# Altium footprint library PcbLib_H2.PcbLib: 33 footprints (part 1 of 3)
Each footprint in its own frame and in the unit in brackets; x right, y up, seen from the top. Pads: shape width x height; smd on the part's side, far side on the other; paste and mask are expansions set on the pad; w line width, h text height; cw(c..) or ccw(c..) is an arc to the next point about the centre after c.
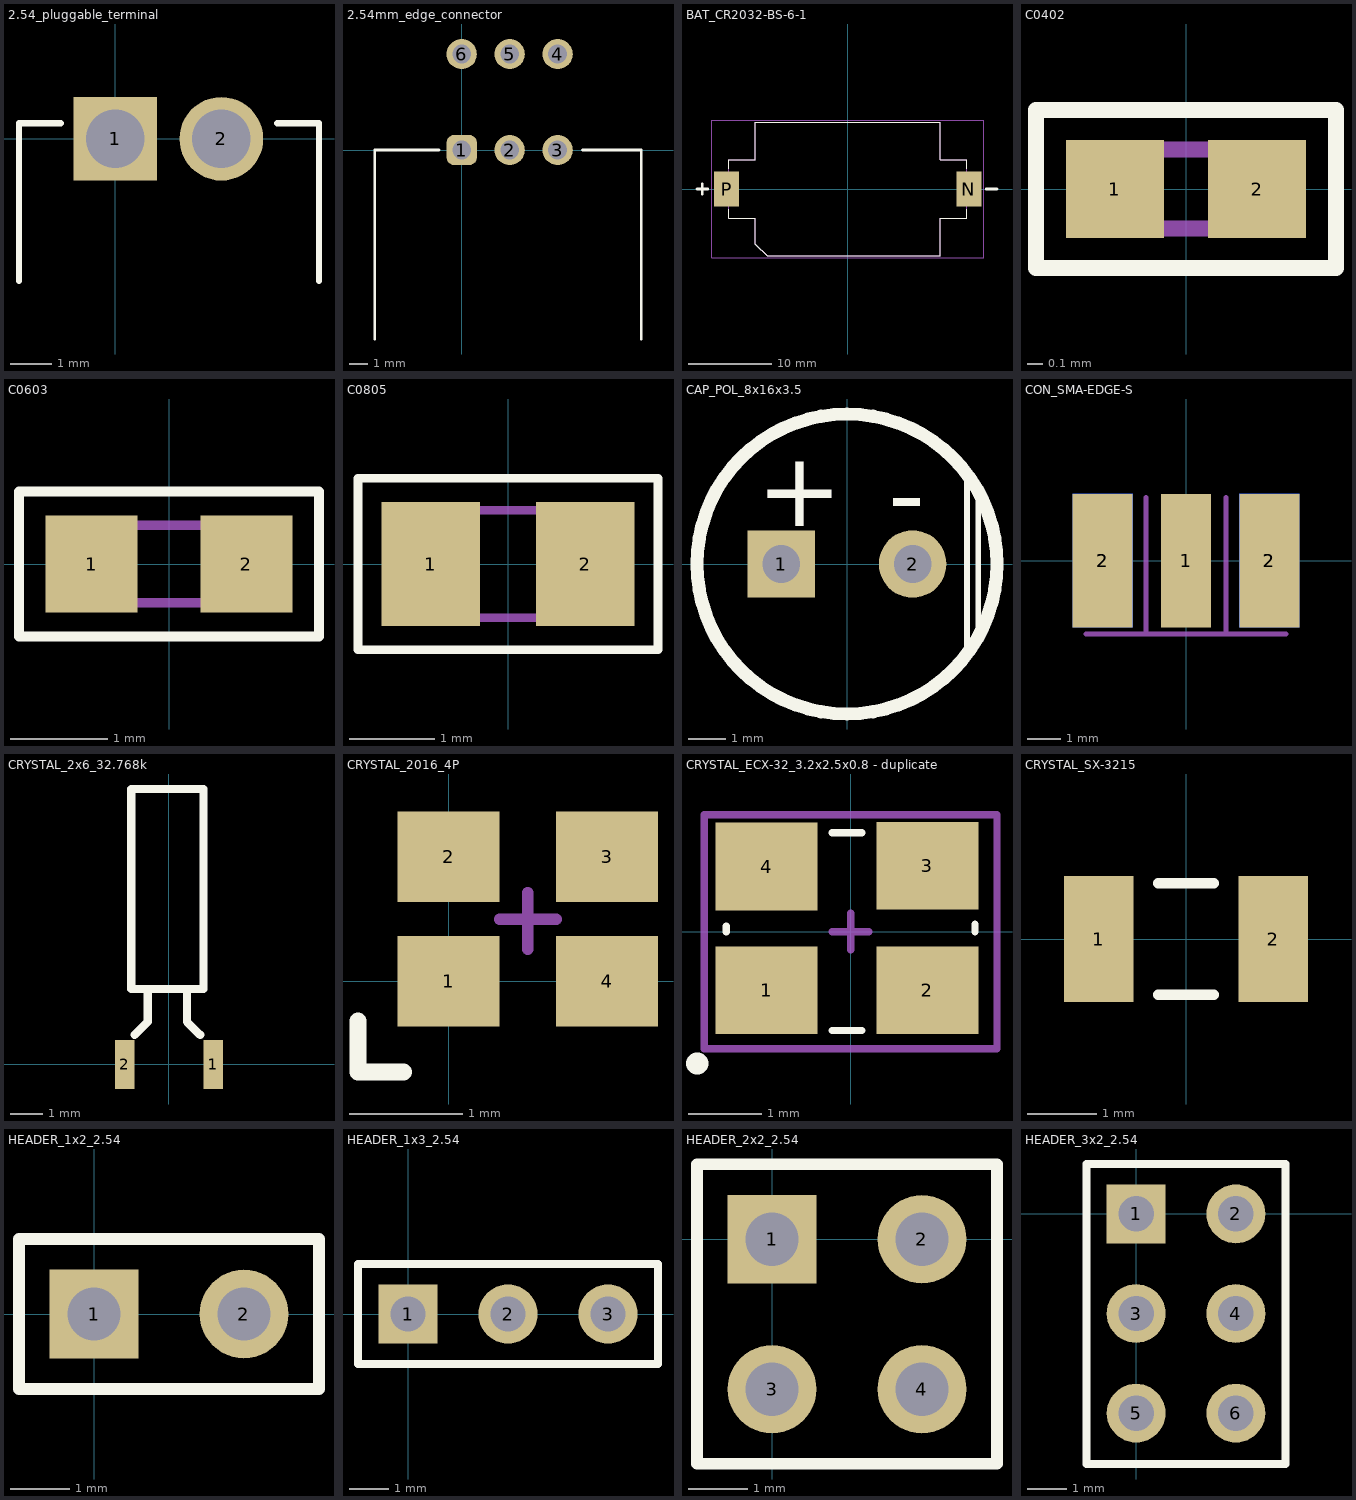
[diagram p0: the footprints below, top view; thin cyan lines are the x and y axes]

## 2.54_pluggable_terminal [mm] "Connector; Header; 2 Position"
pads (2):
  rect 2x2 hole 1.4: 1(0,0)
  round 2 hole 1.4: 2(2.54,0)
Top Overlay:
  lines w0.15: -2.3,-3.4 -2.3,0.375 -1.3,0.375 ; 3.875,0.375 4.875,0.375 4.875,-3.4
3D body "plugin_female.step": height 8.1, standoff -3.5, extent -2.17,-9.95 4.77,0.35

## 2.54mm_edge_connector [mm] "Connector; Header; 2 Position"
pads (6):
  rrect50% 1.6x1.6 hole 1: 1(0,0)
  round 1.6 hole 1: 2(2.54,0) 3(5.08,0) 4(5.08,5.08) 5(2.54,5.08) 6(0,5.08)
Top Overlay:
  lines w0.15: -4.6,-10 -4.6,0 -4.55,0 -1.2,0 ; 6.4,0 9.5,0 9.5,-10
3D body "WingTAT-6L.step": height 9.68, standoff -4.89, extent -4.575,-15.74 9.505,5.54

## BAT_CR2032-BS-6-1 [mm]
height 5.55
pads (2):
  rect 3x4.2 smd: N(14.5,0) P(-14.5,0)
Top Overlay:
  lines w0.127: -14.25,-2.42 -14.25,-3.5 -11.05,-3.5 -11.05,-6.6 -9.65,-8 11.05,-8 11.05,-3.5 14.25,-3.5 14.25,-2.42 ; -14.25,2.42 -14.25,3.5 -11.05,3.5 -11.05,8 11.05,8 11.05,3.5 14.25,3.5 14.25,2.42
  lines w0.3: -18.034,0 -16.764,0 ; -17.399,-0.635 -17.399,0.635 ; 16.58,0 17.85,0
Mechanical 13:
  lines w0.127: -18.034,0 -16.764,0 ; -17.399,-0.635 -17.399,0.635 ; 16.58,0 17.85,0 ; -14.25,-3.5 -11.05,-3.5 -11.05,-6.6 -9.65,-8 11.05,-8 11.05,-3.5 14.25,-3.5 14.25,3.5 11.05,3.5 11.05,8 -11.05,8 -11.05,3.5 -14.25,3.5 -14.25,-3.5
Mechanical 15:
  lines w0.05: -16.25,-8.25 16.25,-8.25 16.25,8.25 -16.25,8.25 -16.25,-8.25
3D body "step_temp.STEP": height 5.55, standoff 0, extent -15.65,-8 15.65,8

## C0402 [mm] "Chip Capacitor; Body 1 x 0.5 mm (LxW typ)"
height 0.4
pads (2):
  rect 0.62x0.62 smd mask+0.05: 1(-0.45,0) 2(0.45,0)
Top Overlay:
  lines w0.1: -0.95,-0.5 0.95,-0.5 0.95,0.5 -0.95,0.5 -0.95,-0.5
Mechanical 15:
  lines w0.1: -0.5,-0.25 0.5,-0.25 0.5,0.25 -0.5,0.25 -0.5,-0.25
3D body "User Library-Capacitor 0402.step": height 0.5, standoff 0, extent -0.5,-0.25 0.5,0.25

## C0603 [mm] "Chip Capacitor; Body 1.6 x 0.8 mm (LxW typ)"
height 0.87
pads (2):
  rect 0.95x1 smd mask+0.05: 1(-0.8,0) 2(0.8,0)
Top Overlay:
  lines w0.1: -1.55,-0.75 -1.55,0.75 1.55,0.75 1.55,-0.75 -1.55,-0.75
Mechanical 15:
  lines w0.1: -0.8,-0.4 0.8,-0.4 0.8,0.4 -0.8,0.4 -0.8,-0.4
3D body "C0603.step": height 0.8, standoff 0, extent -0.8,-0.4 0.8,0.4

## C0805 [mm] "Chip Capacitor; Body 2.0 x 1.2 mm (LxW typ)"
height 1.3
pads (2):
  rect 1.15x1.45 smd mask+0.05: 1(-0.9,0) 2(0.9,0)
Top Overlay:
  lines w0.1: -1.75,-1 1.75,-1 1.75,1 -1.75,1 -1.75,-1
Mechanical 15:
  lines w0.1: -1,-0.625 -1,0.625 1,0.625 1,-0.625 -1,-0.625
3D body "C0805.step": height 0.61, standoff -0.01, extent -1.01,-0.635 1.01,0.635

## CAP_POL_8x16x3.5 [mm]
pads (2):
  rect 1.8x1.8 hole 1 mask+0.05: 1(-1.75,0)
  round 1.8 hole 1 mask+0.05: 2(1.75,0)
Top Overlay:
  circle w0.35: c0,0 r4
  lines w0.15: 3.2,-2.4 3.2,2.2 ; 3.5,-1.9 3.5,1.8
  text "-" at 1.1,0.9 h2
  text "+" at -2.4,1 h2
3D body "User Library-CapAluRadial_D80H150P35.step": height 15, standoff -3, extent -4,-3.996 3.988,3.996

## CON_SMA-EDGE-S [mm]
pads (5):
  rect 1.5x4 smd mask+0.05: 1(0,0)
  rect 1.8x4 smd mask+0.05: 2(-2.5,0) 2(2.5,0)
  rect 1.8x4 smd far side mask+0.05: 2(-2.5,0) 2(2.5,0)
Mechanical 2:
  lines w0.15: -3,-2.2 3,-2.2
  text "PCB Edge" at -2.9,-3 h1
Mechanical 15:
  lines w0.15: -3,-2.2 3,-2.2 ; -1.2,-2.2 -1.2,1.9 ; 1.2,-2.2 1.2,1.9
3D body "User Library-620-SMA-02-112-TGG SMA Female for PCB edge Mount.step": height 3.46, standoff -2.59, extent -3,-11.9 3,1.7

## CRYSTAL_2x6_32.768k [mm]
pads (2):
  rect 0.6x1.5 smd paste-0.05 mask+0.05: 1(1.35,0) 2(-1.35,0)
Top Overlay:
  lines w0.254: -1.05,0.9 -0.65,1.3 -0.65,2.3 ; 0.55,2.3 0.55,1.3 0.95,0.9 ; -1.15,2.3 1.05,2.3 1.05,8.4 -1.15,8.4 -1.15,2.3
3D body "User Library-CMR200TB.STEP": height 2, standoff 0, extent -1.527,-0.626 1.528,8.351

## CRYSTAL_2016_4P [mm]
height 1
pads (4):
  rect 0.9x0.8 smd: 1(0,0) 2(0,1.1) 3(1.4,1.1) 4(1.4,0)
Top Overlay:
  lines w0.15: -0.8,-0.5 -0.8,-0.35 -0.8,-0.8 -0.4,-0.8
Mechanical 15:
  lines w0.1: 0.45,0.55 0.95,0.55 ; 0.7,0.285 0.7,0.785
3D body "ECS-320-6-37B2-CKY-TR.STEP": height 0.5, standoff 0, extent -0.285,-0.217 1.715,1.383

## CRYSTAL_ECX-32_3.2x2.5x0.8 - duplicate [mm]
height 1
pads (4):
  rect 1.4x1.2 smd: 1(-1.15,-0.8) 2(1.05,-0.8) 3(1.05,0.9) 4(-1.15,0.89)
Top Overlay:
  lines w0.1: -1.7,0 -1.7,0.075 ; -0.25,-1.35 0.15,-1.35 ; -0.25,1.35 0.15,1.35 ; 1.7,0 1.7,0.1
  lines w0.3: -2.1,-1.8 -2.096,-1.8
Mechanical 15:
  lines w0.1: -0.25,0 0.25,0 ; 0,-0.25 0,0.25 ; -2,-1.6 2,-1.6 2,1.6 -2,1.6 -2,-1.6
3D body "ABM8G.STEP": height 0.99, standoff 0, extent -1.6,-1.244 1.6,1.245

## CRYSTAL_SX-3215 [mm]
pads (2):
  rect 1x1.8 smd: 1(-1.25,0) 2(1.25,0)
Top Overlay:
  lines w0.15: -0.4,-0.8 0.4,-0.8 ; -0.4,0.8 0.4,0.8
3D body "User Library-Siward_SX3215.step": height 0.81, standoff 0, extent -1.6,-0.75 1.6,0.75

## HEADER_1x2_2.54 [mm] "Connector; Header; 2 Position"
pads (2):
  rect 1.5x1.5 hole 0.9: 1(0,0)
  round 1.5 hole 0.9: 2(2.54,0)
Top Overlay:
  lines w0.2: -1.27,-1.27 -1.27,1.27 3.81,1.27 3.81,-1.27 -1.27,-1.27
3D body "User Library-HEADER2.step": height 8.5, standoff -2.5, extent -1.28,-1.27 3.8,1.27

## HEADER_1x3_2.54 [mm] "Connector; Header; 3 Position"
pads (3):
  rect 1.5x1.5 hole 0.9: 1(0,0)
  round 1.5 hole 0.9: 2(2.54,0) 3(5.08,0)
Top Overlay:
  lines w0.2: -1.27,-1.27 6.35,-1.27 6.35,1.27 -1.27,1.27 -1.27,-1.27
3D body "User Library-Header_Male_3Pin.STEP": height 8.59, standoff -2.95, extent -1.27,-1.245 6.35,1.245

## HEADER_2x2_2.54 [mm] "Connector; Header; 2 Position"
pads (4):
  rect 1.5x1.5 hole 0.9: 1(0,0)
  round 1.5 hole 0.9: 2(2.54,0) 3(0,-2.54) 4(2.54,-2.54)
Top Overlay:
  lines w0.2: -1.27,-3.8 3.81,-3.8 3.81,1.27 -1.27,1.27 -1.27,-3.8
3D body "Pin Header 2x2 TH Pitch 2.54mm.stp": height 9.5, standoff -3.2, extent -1.27,-3.74 3.81,1.34

## HEADER_3x2_2.54 [mm] "Connector; Header; 2 Position"
pads (6):
  rect 1.5x1.5 hole 0.9: 1(0,0)
  round 1.5 hole 0.9: 2(2.54,0) 3(0,-2.54) 4(2.54,-2.54) 5(0,-5.08) 6(2.54,-5.08)
Top Overlay:
  lines w0.2: -1.27,-6.375 -1.27,1.27 3.81,1.27 3.81,-6.375 -1.27,-6.375
3D body "Pin Header 2x3 TH Pitch 2.54mm.stp": height 9.5, standoff -3.2, extent -1.209,-6.32 3.871,1.3